# Altium integrated library Transistor_BJT_NPN.IntLib: 1 symbol
Pins are listed as number, name and electrical type; pins without a type are passive.

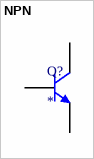
[diagram p0: symbol NPN]

## NPN
designator Q?
Transistor BJT NPN; ComponentLink1Description: BSV52 datasheet; ComponentLink1URL: https://www.mouser.es/datasheet/2/916/BSV52-1598576.pdf
footprint SOT-23-3
pins: 1 C, 2 B, 3 E